# Altium footprint library CYPCBLIB.PcbLib: 185 footprints (part 1 of 12)
Each footprint in its own frame and in the unit in brackets; x right, y up, seen from the top. Pads: shape width x height; smd on the part's side, far side on the other; paste and mask are expansions set on the pad; w line width, h text height; cw(c..) or ccw(c..) is an arc to the next point about the centre after c.
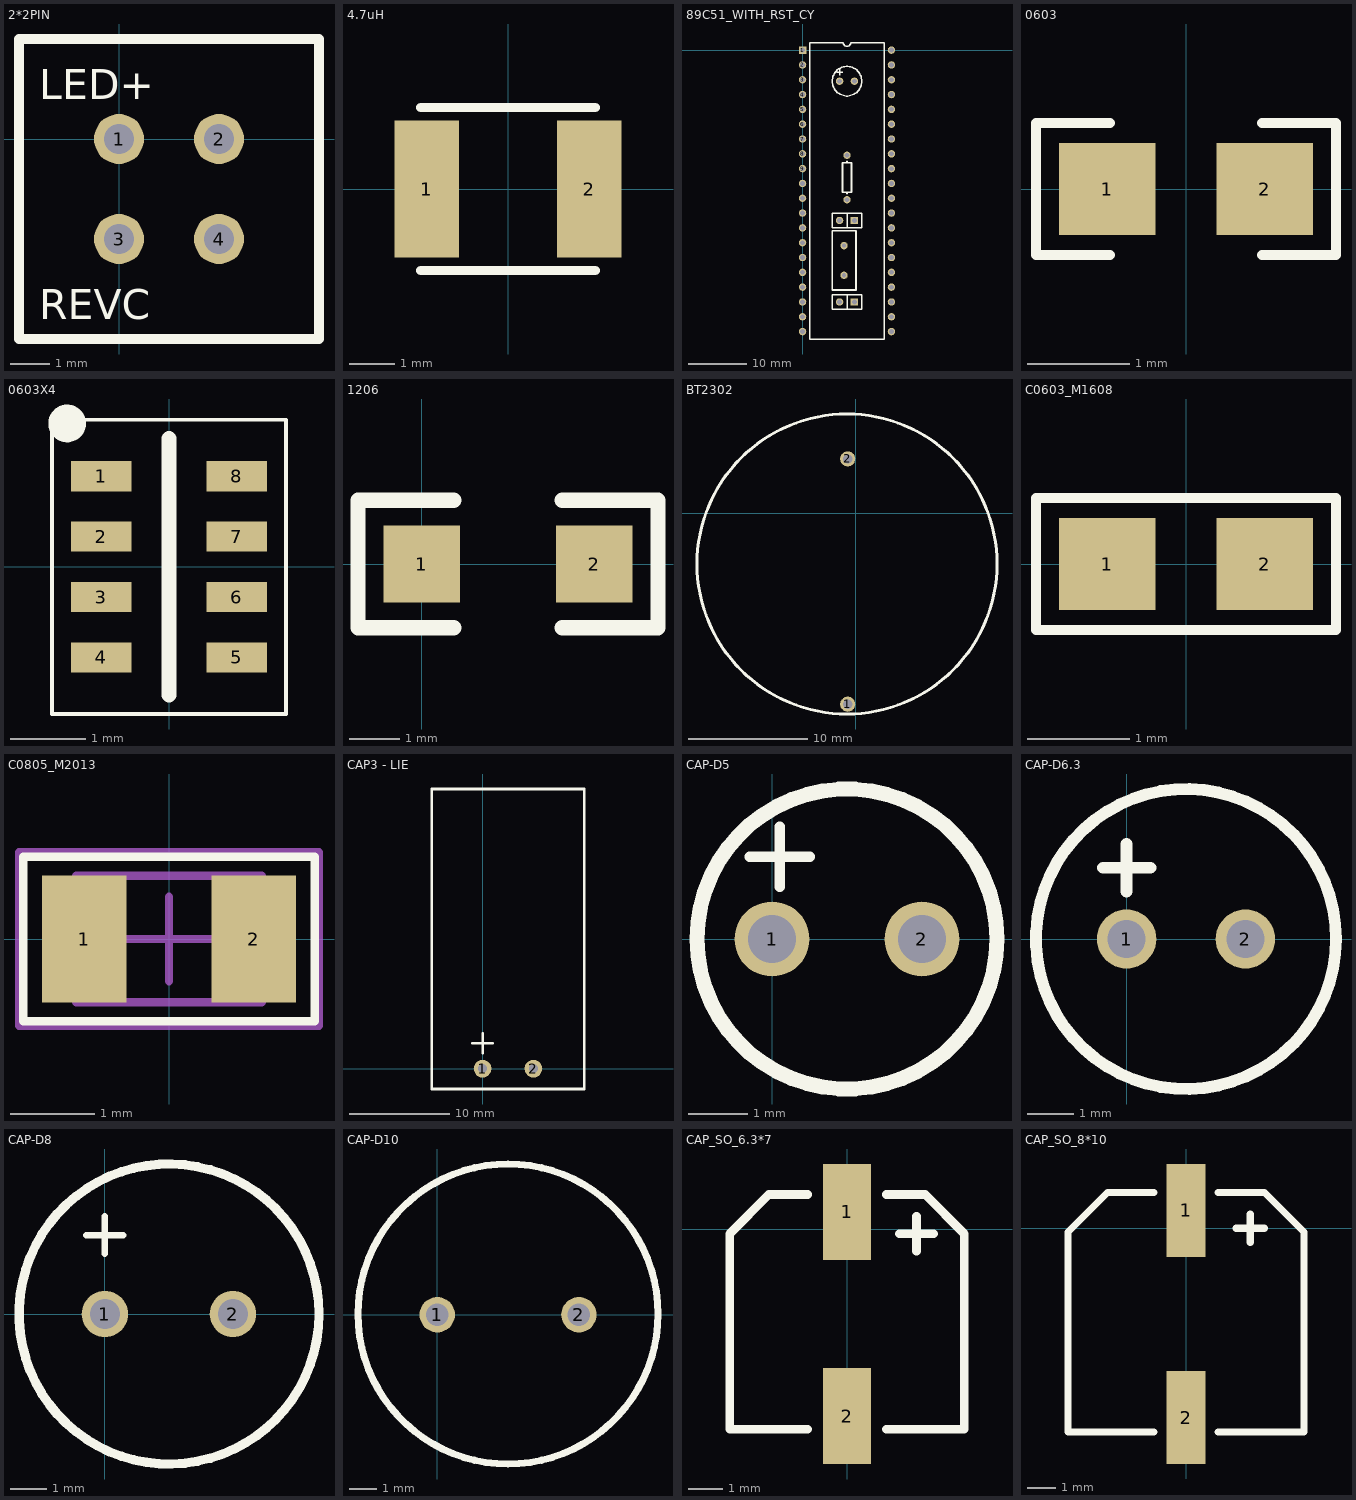
[diagram p0: the footprints below, top view; thin cyan lines are the x and y axes]

## 2*2PIN [mil]
pads (4):
  round 50 hole 30: 1(0,0) 2(100,0) 3(0,-100) 4(100,-100)
TopOverlay:
  lines w10: -100,-200 -100,100 200,100 200,-200 -100,-200
  text "LED+" at -80,40 h30
  text "REVC" at -80,-180 h30

## 4.7uH [mm]
pads (2):
  rect 1.4x3 smd: 1(-1.775,0) 2(1.775,0)
TopOverlay:
  lines w0.2: -1.905,-1.778 1.905,-1.778 ; -1.905,1.778 1.905,1.778

## 89C51_WITH_RST_CY [mil]
pads (50):
  rect 50x50 hole 32: 1(0,0) 41(350,-1700) 44(350,-1150)
  round 50 hole 32: 2(0,-100) 3(0,-200) 4(0,-300) 5(0,-400) 6(0,-500) 7(0,-600) 8(0,-700) 9(0,-800) 10(0,-900) 11(0,-1000) 12(0,-1100) 13(0,-1200) 14(0,-1300) 15(0,-1400) 16(0,-1500) 17(0,-1600) 18(0,-1700) 19(0,-1800) 20(0,-1900) 21(600,-1900) 22(600,-1800) 23(600,-1700) 24(600,-1600) 25(600,-1500) 26(600,-1400) 27(600,-1300) 28(600,-1200) 29(600,-1100) 30(600,-1000) 31(600,-900) 32(600,-800) 33(600,-700) 34(600,-600) 35(600,-500) 36(600,-400) 37(600,-300) 38(600,-200) 39(600,-100) 40(600,0) 42(250,-1700) 43(250,-1150) 47(250,-210) 48(350,-210) 49(300,-710) 50(300,-1010)
  round 50 hole 28: 45(280,-1520) 46(280,-1320)
TopOverlay:
  circle w10: c300,-210 r100
  lines w10: 230,-150 270,-150 ; 250,-170 250,-130 ; 300,-1750 300,-1650 ; 300,-1200 300,-1100 ; 50,-1950 550,-1950 550,50 325,50 cw(c300,50) 275,50 50,50 50,-1950 ; 200,-1750 200,-1650 400,-1650 400,-1750 200,-1750 ; 200,-1200 200,-1100 400,-1100 400,-1200 200,-1200
  lines w12: 300,-969 300,-960 ; 300,-751 300,-760 ; 300,-760 330,-760 330,-960 270,-960 270,-760 300,-760 ; 200,-1620 360,-1620 360,-1220 200,-1220 200,-1620

## 0603 [mm]
pads (2):
  rect 0.95x0.9 smd: 1(-0.775,0) 2(0.775,0)
TopOverlay:
  lines w0.1: -0.75,-0.65 -1.475,-0.65 -1.475,0.65 -0.75,0.65 ; 0.75,-0.65 1.475,-0.65 1.475,0.65 0.75,0.65

## 0603X4 [mm]
pads (8):
  rect 0.8x0.4 smd: 1(-0.9,1.2) 2(-0.9,0.4) 3(-0.9,-0.4) 4(-0.9,-1.2) 5(0.9,-1.2) 6(0.9,-0.4) 7(0.9,0.4) 8(0.9,1.2)
TopOverlay:
  circle w0.25: c-1.35,1.9 r0.125
  lines w0.05: -1.55,-1.95 1.55,-1.95 1.55,1.95 -1.55,1.95 -1.55,-1.95
  lines w0.2: 0,-1.7 0,1.7

## 1206 [mil]
height 35
pads (2):
  rect 60x60 smd: 1(0,0) 2(135,0)
TopOverlay:
  lines w12: 25,-50 -50,-50 -50,50 25,50 ; 110,-50 185,-50 185,50 110,50

## BT2302 [mil]
pads (2):
  round 50 hole 30: 1(-25.83,-629.84) 2(-25.83,180.39)
TopOverlay:
  circle w10: c-28.22,-166.85 r495.31

## C0603_M1608 [mm] "Chip Capacitor, 2-Leads, Body 1.6x0.8mm, IPC Medium Density"
height 0.55
pads (2):
  rect 0.95x0.9 smd: 1(-0.775,0) 2(0.775,0)
TopOverlay:
  lines w0.1: -1.475,-0.65 -1.475,0.65 1.475,0.65 1.475,-0.65 -1.475,-0.65

## C0805_M2013 [mm] "Chip Capacitor, 2-Leads, Body 2.0x1.3mm, IPC Medium Density"
height 0.9
pads (2):
  rect 1x1.5 smd: 1(-1,0) 2(1,0)
TopOverlay:
  lines w0.1: -1.725,-0.975 -1.725,0.975 1.725,0.975 1.725,-0.975 -1.725,-0.975
Mechanical13:
  lines w0.1: -1.1,-0.75 1.1,-0.75 1.1,0.75 -1.1,0.75 -1.1,-0.75
Mechanical15:
  lines w0.1: -0.5,0 0.5,0 ; 0,-0.5 0,0.5 ; -1.775,-1.025 1.775,-1.025 1.775,1.025 -1.775,1.025 -1.775,-1.025
3D body: height 0.9, standoff 0, extent -1.1,-0.75 1.1,0.75

## CAP3 - LIE [mil]
pads (2):
  round 70 hole 36: 1(0,0) 2(200,0)
TopOverlay:
  lines w10: -40,100 40,100 ; 0,60 0,140 ; -200,-80 400,-80 400,1100 -200,1100 -200,-80

## CAP-D5 [mil]
pads (2):
  round 50 hole 32: 1(0,0) 2(100,0)
TopOverlay:
  circle w10: c50,0 r100
  lines w7: -15,55 25,55 ; 5,35 5,75

## CAP-D6.3 [mil]
pads (2):
  round 50 hole 32: 1(0,0) 2(100,0)
TopOverlay:
  circle w10: c50,0 r126.3
  lines w10: -20,60 20,60 ; 0,40 0,80

## CAP-D8 [mil]
pads (2):
  round 50 hole 32: 1(0,0) 2(137.8,0)
TopOverlay:
  circle w10: c68.98,0 r161.42
  lines w7: -20,85 20,85 ; 0,65 0,105

## CAP-D10 [mil]
pads (2):
  round 50 hole 32: 1(0,0) 2(200,0)
TopOverlay:
  circle w10: c99.88,1 r211.88

## CAP_SO_6.3*7 [mm]
pads (2):
  rrect0% 1.4x2.8 smd: 1(0,0.508) 2(0,-5.461)
TopOverlay:
  lines w0.254: -1.143,-5.842 -3.429,-5.842 -3.429,-0.127 -2.286,1.016 -1.143,1.016 ; 1.143,-5.842 3.429,-5.842 3.429,-0.127 2.286,1.016 1.143,1.016 ; 1.524,-0.127 2.54,-0.127 ; 2.032,-0.635 2.032,0.381

## CAP_SO_8*10 [mil]
pads (2):
  rrect0% 55.12x130 smd: 1(0,25) 2(0,-265)
TopOverlay:
  lines w10: -45,-285 -165,-285 -165,-5 -110,50 -45,50 ; 45,-285 165,-285 165,-5 110,50 45,50 ; 70,0 110,0 ; 90,-20 90,20